# Altium integrated library 555Timer.IntLib: 1 symbol
Pins are listed as number, name and electrical type; pins without a type are passive.

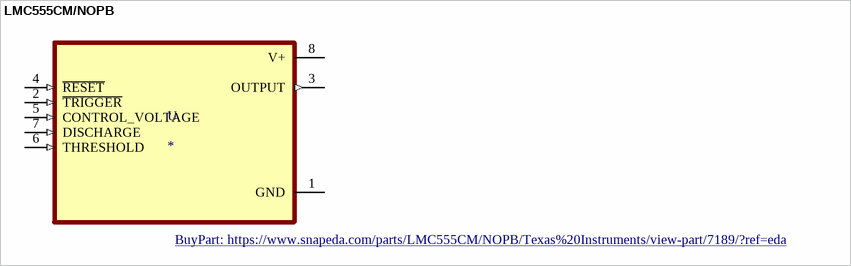
[diagram p0: symbol LMC555CM/NOPB]

## LMC555CM/NOPB
designator U
Worlds smallest 555 timer with low power, high accuracy and a Fmax of 3MHz 8-SOIC -40 to 85; MP: LMC555CM/NOPB; MF: Texas Instruments; SnapEDA_Link: https://www.snapeda.com/parts/LMC555CM/NOPB/Texas%20Instruments/view-part/7189/?ref=snap; Availability: Unavailable; Package: SOIC-8 Texas Instruments; Price: None; Value: *; Texas_Instruments-Purchase-URL: https://snapeda.com/shop?store=Texas+Instruments&id=7189; BuyPart: https://www.snapeda.com/parts/LMC555CM/NOPB/Texas%20Instruments/view-part/7189/?ref=eda
footprint SOIC127P599X175-8N
pins: 1 GND (power), 2 ~{TRIGGER} (in), 3 OUTPUT (out), 4 ~{RESET} (in), 5 CONTROL_VOLTAGE (in), 6 THRESHOLD (in), 7 DISCHARGE (in), 8 V+ (power)